# EAGLE library part FT230XS-R (library KVB-ICs)
USB Bridge USB to UART USB 2.0 UART Interface 16-SSOP
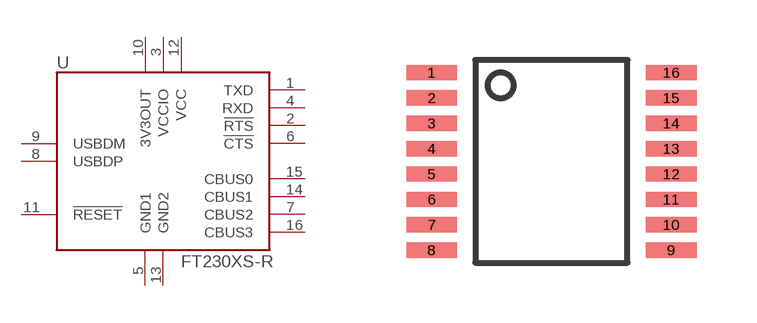
[diagram p8: symbol with the pads of FT230XS-R; footprint FT230XS-R]

Designator prefix U

## FT230XS-R (MAN-PART_NUM: FT230XS-R; MANUFACTURER: FTDI)  [FT230XS-R]
1  TXD
2  !RTS
3  VCCIO
4  RXD
5  GND1
6  !CTS
7  CBUS2
8  USBDP
9  USBDM
10  3V3OUT
11  !RESET
12  VCC
13  GND2
14  CBUS1
15  CBUS0
16  CBUS3

## Footprint FT230XS-R (pad centres in mm)
smd 1.27 x 0.381: 1 -2.997,2.223; 2 -2.997,1.587; 3 -2.997,0.953; 4 -2.997,0.318; 5 -2.997,-0.318; 6 -2.997,-0.953; 7 -2.997,-1.587; 8 -2.997,-2.223; 9 2.997,-2.223; 10 2.997,-1.587; 11 2.997,-0.953; 12 2.997,-0.318; 13 2.997,0.318; 14 2.997,0.953; 15 2.997,1.587; 16 2.997,2.223